# EAGLE library part TEN_3* (library traco-electronic)
DC/DC Konverter 3 Watt, 2 x Input, 1 x Output Source: http://www.tracopower.com/datasheet_g/ten3-d.pdf
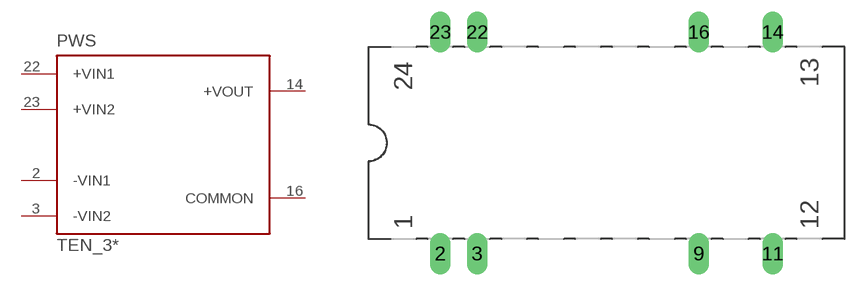
[diagram p3: symbol with the pads of TEN3XXXX; footprint TEN3XXXX]

Designator prefix PWS

## TEN_30510 (OC_FARNELL: unknown; OC_NEWARK: unknown), TEN_30511 (OC_FARNELL: unknown; OC_NEWARK: unknown), TEN_30512 (OC_FARNELL: unknown; OC_NEWARK: unknown), TEN_30513 (OC_FARNELL: unknown; OC_NEWARK: unknown), TEN_31210 (OC_FARNELL: unknown; OC_NEWARK: unknown), TEN_31211 (OC_FARNELL: unknown; OC_NEWARK: unknown), TEN_31212 (OC_FARNELL: unknown; OC_NEWARK: unknown), TEN_31213 (OC_FARNELL: unknown; OC_NEWARK: unknown), TEN_32410 (OC_FARNELL: unknown; OC_NEWARK: unknown), TEN_32411 (MPN: TEN3-2411; OC_FARNELL: unknown; OC_NEWARK: 45K1582), TEN_32412 (OC_FARNELL: unknown; OC_NEWARK: unknown), TEN_32413 (MPN: TEN3-2413; OC_FARNELL: unknown; OC_NEWARK: 14N5516), TEN_34810 (OC_FARNELL: unknown; OC_NEWARK: unknown), TEN_34811 (MPN: TEN 3-4811WI; OC_FARNELL: unknown; OC_NEWARK: 90R9814), TEN_34812 (OC_FARNELL: unknown; OC_NEWARK: unknown), TEN_34813 (OC_FARNELL: unknown; OC_NEWARK: unknown)  [TEN3XXXX]
2  -VIN1  in
3  -VIN2  in
14  +VOUT  pas
16  COMMON  pas
22  +VIN1  in
23  +VIN2  in

## Footprint TEN3XXXX (pad centres in mm)
DC/DC Konverter 3 Watt Source: http://www.tracopower.com/datasheet_g/ten3-d.pdf
drill 0.813 pad 1.422 long: 2 -11.43,-7.62; 3 -8.89,-7.62; 9 6.35,-7.62; 11 11.43,-7.62; 14 11.43,7.62; 16 6.35,7.62; 22 -8.89,7.62; 23 -11.43,7.62